# EAGLE library part AWM661TX (library n39)
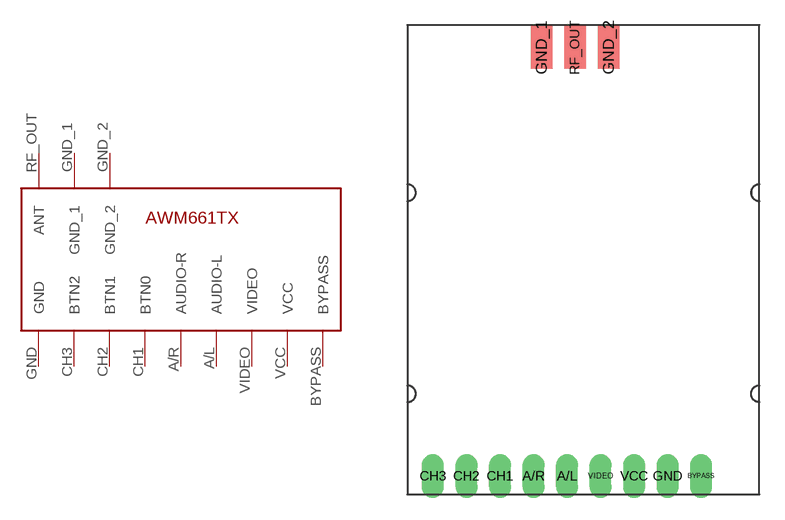
[diagram p3: symbol with the pads of AWM661TX; footprint AWM661TX]

Designator prefix IC

## AWM661TX  [AWM661TX]
A/L  AUDIO-L
A/R  AUDIO-R
BYPASS  BYPASS
CH1  BTN0
CH2  BTN1
CH3  BTN2
GND  GND
GND_1  GND_1
GND_2  GND_2
RF_OUT  ANT
VCC  VCC
VIDEO  VIDEO

## Footprint AWM661TX (pad centres in mm)
drill 0.8 long: A/L 9.525,1.1; A/R 7.525,1.1; BYPASS 17.525,1.1; CH1 5.525,1.1; CH2 3.525,1.1; CH3 1.525,1.1; GND 15.525,1.1; VCC 13.525,1.1; VIDEO 11.525,1.1
smd 1.27 x 2.54: GND_1 8,26.67; GND_2 12,26.67; RF_OUT 10,26.67